# Altium schematic symbol library MPU-9150.Schlib: 1 symbol
Pins are listed as number, name and electrical type; pins without a type are passive.

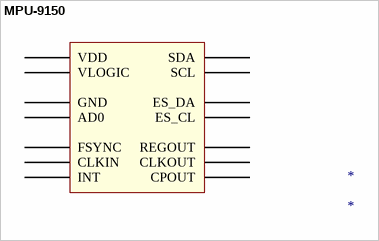
[diagram p0: symbol MPU-9150]

## MPU-9150
designator *
IC 9-DOF IMU
pins: AD0, CLKIN, CLKOUT, CPOUT, ES_CL, ES_DA, FSYNC, GND, INT, REGOUT, SCL, SDA, VDD, VLOGIC